# Altium schematic symbol library mount_hole.SchLib: 1 symbol
Pins are listed as number, name and electrical type; pins without a type are passive.

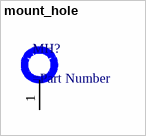
[diagram p0: symbol mount_hole]

## mount_hole
designator MH?  (no BOM)
=Description
pins: 1 GND (power)